# Altium footprint library SOT-223-6.PcbLib: 1 footprints
Each footprint in its own frame and in the unit in brackets; x right, y up, seen from the top. Pads: shape width x height; smd on the part's side, far side on the other; paste and mask are expansions set on the pad; w line width, h text height; cw(c..) or ccw(c..) is an arc to the next point about the centre after c.
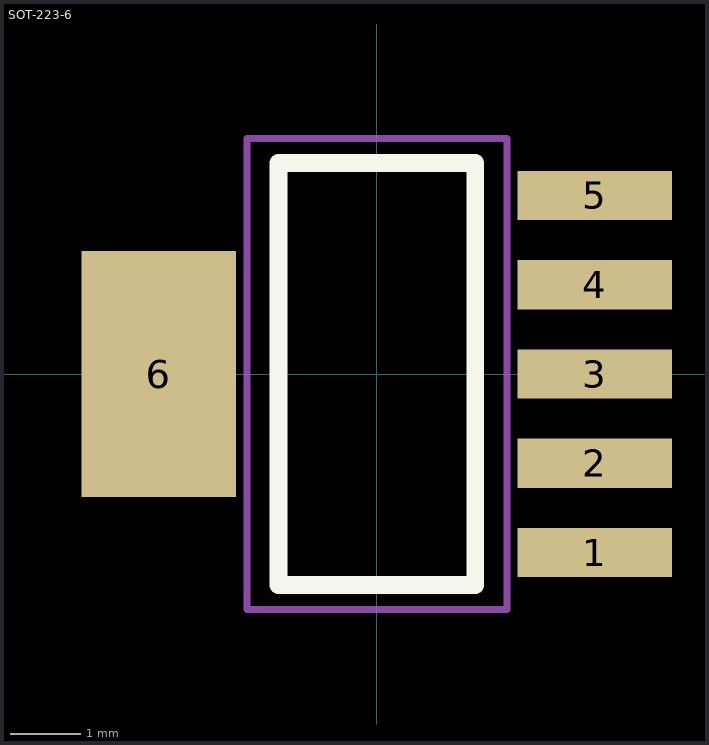
[diagram p0: the footprint, top view; thin cyan lines are the x and y axes]

## SOT-223-6 [mm]
pads (6):
  rect 2.2x0.7 smd: 1(3.1,-2.54) 2(3.1,-1.27) 3(3.1,0) 4(3.1,1.27) 5(3.1,2.54)
  rect 2.2x3.5 smd: 6(-3.1,0)
Top Overlay:
  lines w0.254: -1.4,-3 -1.4,3 1.4,3 1.4,-3 -1.4,-3
Mechanical 13:
  lines w0.1: -1.85,-3.35 1.85,-3.35 1.85,3.35 -1.85,3.35 -1.85,-3.35
3D body: height 1.8, standoff 0, extent -3.63,-3.275 3.63,3.275